# EAGLE library part ALPS_SLLB-MULTI_CONTROL_SWITCH (library m_switch-mechanical)
ALPS SLLB Multi Control Switch This Alps "seesaw" switch features bi-directional opeartion as well as pushbutton operation. Available from Mouser Electronics
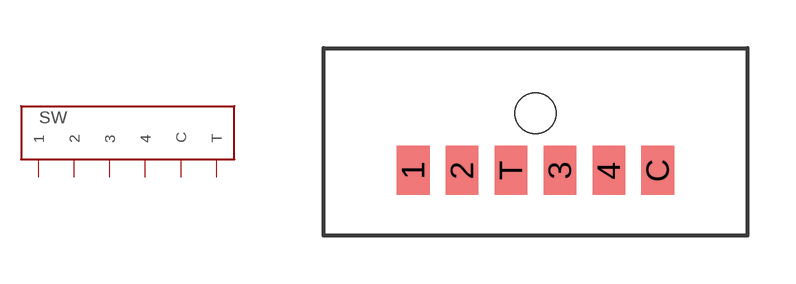
[diagram p0: symbol with the pads of ALPS-SLLB-MULTI_CONTROL_SWITCH; footprint ALPS-SLLB-MULTI_CONTROL_SWITCH]

Designator prefix SW

## ALPS_SLLB-MULTI_CONTROL_SWITCH  [ALPS-SLLB-MULTI_CONTROL_SWITCH]
1  1  pas
2  2  pas
3  3  pas
4  4  pas
C  C  pas
T  T  pas

## Footprint ALPS-SLLB-MULTI_CONTROL_SWITCH (pad centres in mm)
smd 1.016 x 1.524: 1 -3.81,0; 2 -2.286,0; 3 0.762,0; 4 2.286,0; C 3.81,0; T -0.762,0
hole 1.27 at 0,1.778